# EAGLE library part TEN_60-2412N (library SamacSys_Parts)
60 Watt DC/DC converter, industrial, 2:1 input, optimized design, encapsulated, 2" x 1" metal package Source: Datasheet <https://tracopower.com/ten60n-datasheet/>
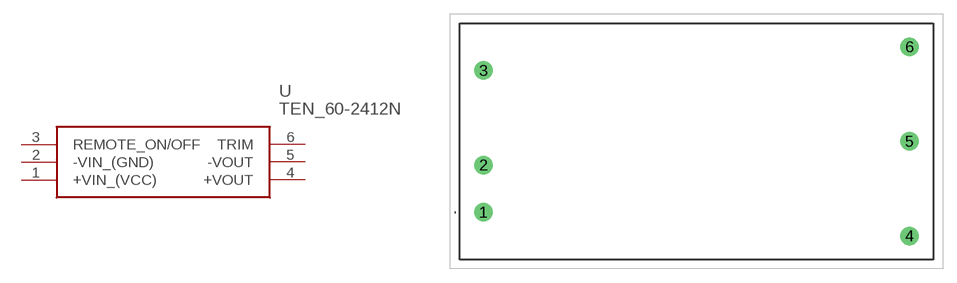
[diagram p0: symbol with the pads of TEN602425WIN; footprint TEN602425WIN]

Designator prefix U

## TEN_60-2412N (Description: 60 Watt DC/DC converter, industrial, 2:1 input, optimized design, encapsulated, 2" x 1" metal package; Height: 10.7mm; Manufacturer_Name: Traco Power; Manufacturer_Part_Number: TEN 60-2412N; Mouser_Part_Number: 495-TEN60-2412N; Mouser_Price-Stock: https://www.mouser.co.uk/ProductDetail/TRACO-Power/TEN-60-2412N?qs=ckJk83FOD0VXj1pRyQBddA%3D%3D)  [TEN602425WIN]
1  +VIN_(VCC)
2  -VIN_(GND)
3  REMOTE_ON/OFF
4  +VOUT
5  -VOUT
6  TRIM

## Footprint TEN602425WIN (pad centres in mm)
TEN 60-2425WIN
drill 1.2 pad 2: 1 0,0; 2 0,5.08; 3 0,15.24; 4 45.72,-2.54; 5 45.72,7.62; 6 45.72,17.78